# Altium integrated library CDE_Library.IntLib: 6171 symbols (part 11 of 25)
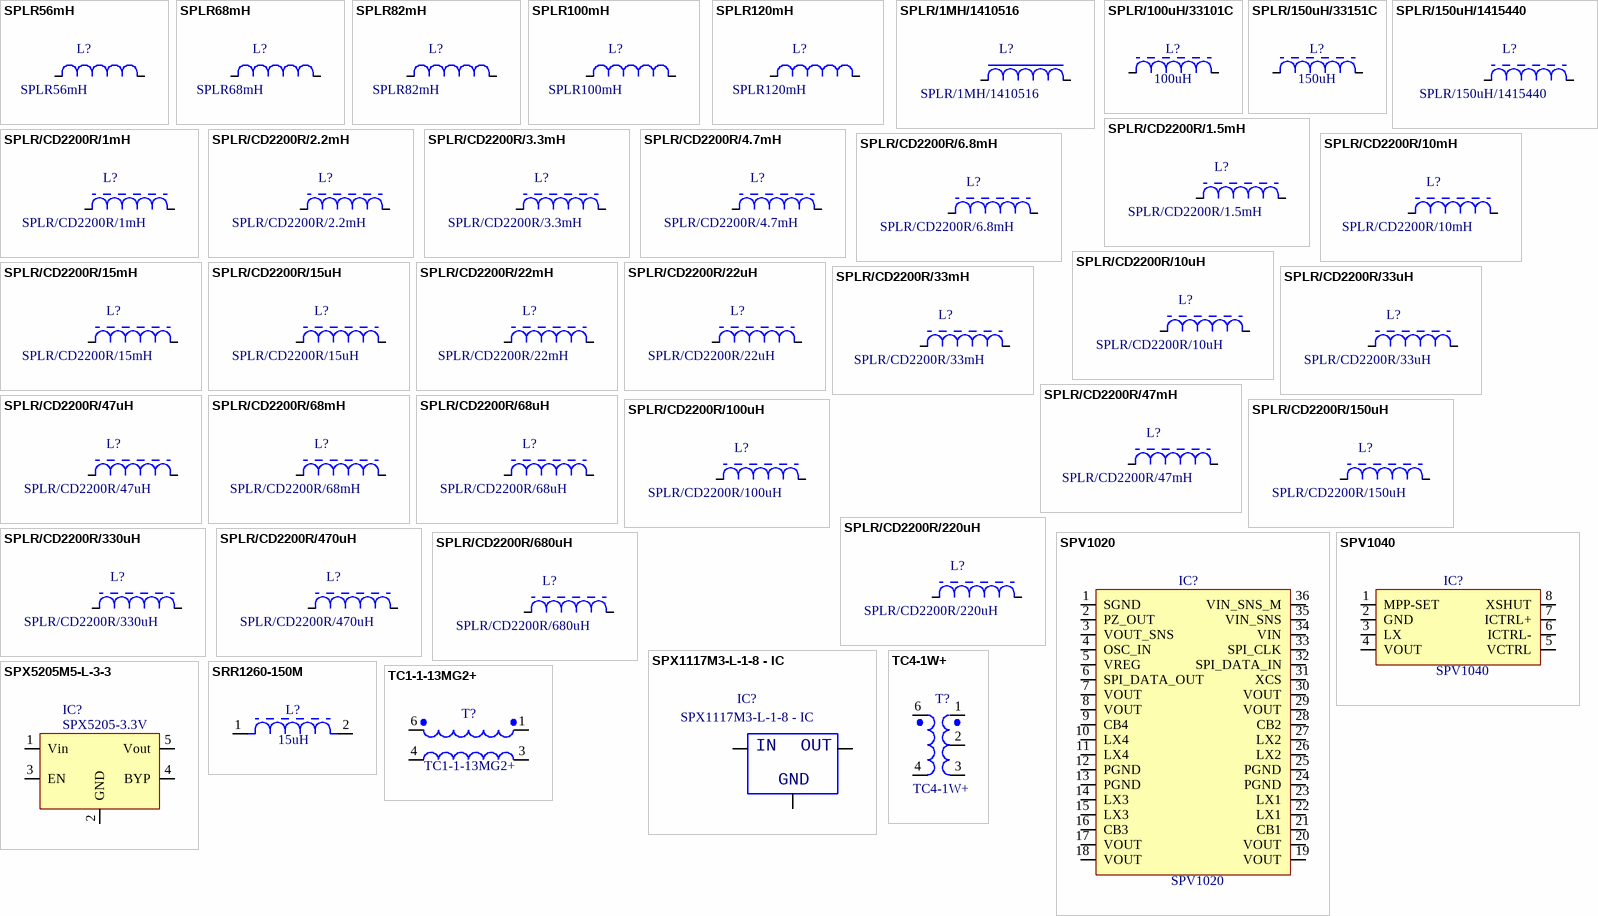
[diagram p267: symbols SPLR56mH to TC4-1W+]

## SPLR82mH
designator L?
spoel radiaal magn. afgeschermd D10.2mm Toko10RB  82mH; Part Number: SPLR82mH; Component Kind: Standard; Component Type: Standard; Designator: SPLR82mH; Footprint: spoel (D.4/.2/80/36); Library Reference: SPLR82mH; Pin Count: 2
footprint spoel (D.4/.2/80/36)
pins: 1, 2

## SPLR100mH
designator L?
spoel radiaal magn. afgeschermd D10.2mm Toko10RB  100mH; Part Number: SPLR100mH; Component Kind: Standard; Component Type: Standard; Designator: SPLR100mH; Footprint: spoel (D.4/.2/80/36); Library Reference: SPLR100mH; Pin Count: 2
footprint spoel (D.4/.2/80/36)
pins: 1, 2

## SPLR120mH
designator L?
spoel radiaal magn. afgeschermd D10.2mm Toko10RB  120mH; Part Number: SPLR120mH; Component Kind: Standard; Component Type: Standard; Designator: SPLR120mH; Footprint: spoel (D.4/.2/80/36); Library Reference: SPLR120mH; Pin Count: 2
footprint spoel (D.4/.2/80/36)
pins: 1, 2

## SPLR/1MH/1410516
designator L?
spoel radiaal, Newport Components, 1mH
footprint spoel (D.93/.91/90/32)
pins: 1, 2

## SPLR/100uH/33101C
designator L?, comment 100uH
spoel radiaal, Murata, 100uH, 33101C, 2.4A
footprint SPL/Murata 33151C
pins: 1, 3

## SPLR/150uH/33151C
designator L?, comment 150uH
spoel radiaal, Murata, 150uH, 33151C, 2A
footprint SPL/Murata 33151C
pins: 1, 3

## SPLR/150uH/1415440
designator L?
spoel radiaal, C&D Technologies, 150uH, 432-040
footprint spoel (D/1.1/.98/100/47)
pins: 1, 2

## SPLR/CD2200R/1.5mH
designator L?
spoel radiaal met ferrietkern, C&D Technologies, type 2200R; Part Number: SPLR/CD2200R/1.5mH; Component Kind: Standard; Component Type: Standard; Designator: SPLR/CD2200R/1.5mH; Footprint: spoel (D.3/.12/80/36); Library Reference: SPLR/CD2200R/1.5mH; Pin Count: 2
footprint spoel (D.3/.12/80/36)
pins: 1, 2

## SPLR/CD2200R/1mH
designator L?
spoel radiaal met ferrietkern, C&D Technologies, type 2200R; Part Number: SPLR/CD2200R/1mH; Component Kind: Standard; Component Type: Standard; Designator: SPLR/CD2200R/1mH; Footprint: spoel (D.3/.12/80/36); Library Reference: SPLR/CD2200R/1mH; Pin Count: 2
footprint spoel (D.3/.12/80/36)
pins: 1, 2

## SPLR/CD2200R/2.2mH
designator L?
spoel radiaal met ferrietkern, C&D Technologies, type 2200R; Part Number: SPLR/CD2200R/2.2mH; Component Kind: Standard; Component Type: Standard; Designator: SPLR/CD2200R/2.2mH; Footprint: spoel (D.3/.12/80/36); Library Reference: SPLR/CD2200R/2.2mH; Pin Count: 2
footprint spoel (D.3/.12/80/36)
pins: 1, 2

## SPLR/CD2200R/3.3mH
designator L?
spoel radiaal met ferrietkern, C&D Technologies, type 2200R; Part Number: SPLR/CD2200R/3.3mH; Component Kind: Standard; Component Type: Standard; Designator: SPLR/CD2200R/3.3mH; Footprint: spoel (D.3/.12/80/36); Library Reference: SPLR/CD2200R/3.3mH; Pin Count: 2
footprint spoel (D.3/.12/80/36)
pins: 1, 2

## SPLR/CD2200R/4.7mH
designator L?
spoel radiaal met ferrietkern, C&D Technologies, type 2200R; Part Number: SPLR/CD2200R/4.7mH; Component Kind: Standard; Component Type: Standard; Designator: SPLR/CD2200R/4.7mH; Footprint: spoel (D.3/.12/80/36); Library Reference: SPLR/CD2200R/4.7mH; Pin Count: 2
footprint spoel (D.3/.12/80/36)
pins: 1, 2

## SPLR/CD2200R/6.8mH
designator L?
spoel radiaal met ferrietkern, C&D Technologies, type 2200R; Part Number: SPLR/CD2200R/6.8mH; Component Kind: Standard; Component Type: Standard; Designator: SPLR/CD2200R/6.8mH; Footprint: spoel (D.3/.12/80/36); Library Reference: SPLR/CD2200R/6.8mH; Pin Count: 2
footprint spoel (D.3/.12/80/36)
pins: 1, 2

## SPLR/CD2200R/10mH
designator L?
spoel radiaal met ferrietkern, C&D Technologies, type 2200R; Part Number: SPLR/CD2200R/10mH; Component Kind: Standard; Component Type: Standard; Designator: SPLR/CD2200R/10mH; Footprint: spoel (D.3/.12/80/36); Library Reference: SPLR/CD2200R/10mH; Pin Count: 2
footprint spoel (D.3/.12/80/36)
pins: 1, 2

## SPLR/CD2200R/10uH
designator L?
spoel radiaal met ferrietkern, C&D Technologies, type 2200R
footprint spoel (D.3/.12/80/36)
pins: 1, 2

## SPLR/CD2200R/15mH
designator L?
spoel radiaal met ferrietkern, C&D Technologies, type 2200R; Part Number: SPLR/CD2200R/15mH; Component Kind: Standard; Component Type: Standard; Designator: SPLR/CD2200R/15mH; Footprint: spoel (D.3/.12/80/36); Library Reference: SPLR/CD2200R/15mH; Pin Count: 2
footprint spoel (D.3/.12/80/36)
pins: 1, 2

## SPLR/CD2200R/15uH
designator L?
spoel radiaal met ferrietkern, C&D Technologies, type 2200R; Part Number: SPLR/CD2200R/15uH; Component Kind: Standard; Component Type: Standard; Designator: SPLR/CD2200R/15uH; Footprint: spoel (D.3/.12/80/36); Library Reference: SPLR/CD2200R/15uH; Pin Count: 2
footprint spoel (D.3/.12/80/36)
pins: 1, 2

## SPLR/CD2200R/22mH
designator L?
spoel radiaal met ferrietkern, C&D Technologies, type 2200R; Part Number: SPLR/CD2200R/22mH; Component Kind: Standard; Component Type: Standard; Designator: SPLR/CD2200R/22mH; Footprint: spoel (D.3/.12/80/36); Library Reference: SPLR/CD2200R/22mH; Pin Count: 2
footprint spoel (D.3/.12/80/36)
pins: 1, 2

## SPLR/CD2200R/22uH
designator L?
spoel radiaal met ferrietkern, C&D Technologies, type 2200R; Part Number: SPLR/CD2200R/22uH; Component Kind: Standard; Component Type: Standard; Designator: SPLR/CD2200R/22uH; Footprint: spoel (D.3/.12/80/36); Library Reference: SPLR/CD2200R/22uH; Pin Count: 2
footprint spoel (D.3/.12/80/36)
pins: 1, 2

## SPLR/CD2200R/33mH
designator L?
spoel radiaal met ferrietkern, C&D Technologies, type 2200R; Part Number: SPLR/CD2200R/33mH; Component Kind: Standard; Component Type: Standard; Designator: SPLR/CD2200R/33mH; Footprint: spoel (D.3/.12/80/36); Library Reference: SPLR/CD2200R/33mH; Pin Count: 2
footprint spoel (D.3/.12/80/36)
pins: 1, 2

## SPLR/CD2200R/33uH
designator L?
spoel radiaal met ferrietkern, C&D Technologies, type 2200R; Part Number: SPLR/CD2200R/33uH; Component Kind: Standard; Component Type: Standard; Designator: SPLR/CD2200R/33uH; Footprint: spoel (D.3/.12/80/36); Library Reference: SPLR/CD2200R/33uH; Pin Count: 2
footprint spoel (D.3/.12/80/36)
pins: 1, 2

## SPLR/CD2200R/47mH
designator L?
spoel radiaal met ferrietkern, C&D Technologies, type 2200R; Part Number: SPLR/CD2200R/47mH; Component Kind: Standard; Component Type: Standard; Designator: SPLR/CD2200R/47mH; Footprint: spoel (D.3/.12/80/36); Library Reference: SPLR/CD2200R/47mH; Pin Count: 2
footprint spoel (D.3/.12/80/36)
pins: 1, 2

## SPLR/CD2200R/47uH
designator L?
spoel radiaal met ferrietkern, C&D Technologies, type 2200R; Part Number: SPLR/CD2200R/47uH; Component Kind: Standard; Component Type: Standard; Designator: SPLR/CD2200R/47uH; Footprint: spoel (D.3/.12/80/36); Library Reference: SPLR/CD2200R/47uH; Pin Count: 2
footprint spoel (D.3/.12/80/36)
pins: 1, 2

## SPLR/CD2200R/68mH
designator L?
spoel radiaal met ferrietkern, C&D Technologies, type 2200R; Part Number: SPLR/CD2200R/68mH; Component Kind: Standard; Component Type: Standard; Designator: SPLR/CD2200R/68mH; Footprint: spoel (D.3/.12/80/36); Library Reference: SPLR/CD2200R/68mH; Pin Count: 2
footprint spoel (D.3/.12/80/36)
pins: 1, 2

## SPLR/CD2200R/68uH
designator L?
spoel radiaal met ferrietkern, C&D Technologies, type 2200R; Part Number: SPLR/CD2200R/68uH; Component Kind: Standard; Component Type: Standard; Designator: SPLR/CD2200R/68uH; Footprint: spoel (D.3/.12/80/36); Library Reference: SPLR/CD2200R/68uH; Pin Count: 2
footprint spoel (D.3/.12/80/36)
pins: 1, 2

## SPLR/CD2200R/100uH
designator L?
spoel radiaal met ferrietkern, C&D Technologies, type 2200R; Part Number: SPLR/CD2200R/100uH; Component Kind: Standard; Component Type: Standard; Designator: SPLR/CD2200R/100uH; Footprint: spoel (D.3/.12/80/36); Library Reference: SPLR/CD2200R/100uH; Pin Count: 2
footprint spoel (D.3/.12/80/36)
pins: 1, 2

## SPLR/CD2200R/150uH
designator L?
spoel radiaal met ferrietkern, C&D Technologies, type 2200R; Part Number: SPLR/CD2200R/150uH; Component Kind: Standard; Component Type: Standard; Designator: SPLR/CD2200R/150uH; Footprint: spoel (D.3/.12/80/36); Library Reference: SPLR/CD2200R/150uH; Pin Count: 2
footprint spoel (D.3/.12/80/36)
pins: 1, 2

## SPLR/CD2200R/220uH
designator L?
spoel radiaal met ferrietkern, C&D Technologies, type 2200R; Part Number: SPLR/CD2200R/220uH; Component Kind: Standard; Component Type: Standard; Designator: SPLR/CD2200R/220uH; Footprint: spoel (D.3/.12/80/36); Library Reference: SPLR/CD2200R/220uH; Pin Count: 2
footprint spoel (D.3/.12/80/36)
pins: 1, 2

## SPLR/CD2200R/330uH
designator L?
spoel radiaal met ferrietkern, C&D Technologies, type 2200R; Part Number: SPLR/CD2200R/330uH; Component Kind: Standard; Component Type: Standard; Designator: SPLR/CD2200R/330uH; Footprint: spoel (D.3/.12/80/36); Library Reference: SPLR/CD2200R/330uH; Pin Count: 2
footprint spoel (D.3/.12/80/36)
pins: 1, 2

## SPLR/CD2200R/470uH
designator L?
spoel radiaal met ferrietkern, C&D Technologies, type 2200R; Part Number: SPLR/CD2200R/470uH; Component Kind: Standard; Component Type: Standard; Designator: SPLR/CD2200R/470uH; Footprint: spoel (D.3/.12/80/36); Library Reference: SPLR/CD2200R/470uH; Pin Count: 2
footprint spoel (D.3/.12/80/36)
pins: 1, 2

## SPLR/CD2200R/680uH
designator L?
spoel radiaal met ferrietkern, C&D Technologies, type 2200R; Part Number: SPLR/CD2200R/680uH; Component Kind: Standard; Component Type: Standard; Designator: SPLR/CD2200R/680uH; Footprint: spoel (D.3/.12/80/36); Library Reference: SPLR/CD2200R/680uH; Pin Count: 2
footprint spoel (D.3/.12/80/36)
pins: 1, 2

## SPV1020
designator IC?
Interleaved DC-DC boost converter with built-in MPPT algorithm
footprint PowerSSO-36
pins: 1 SGND, 2 PZ_OUT, 3 VOUT_SNS, 4 OSC_IN, 5 VREG, 6 SPI_DATA_OUT, 7 VOUT, 8 VOUT, 9 CB4, 10 LX4, 11 LX4, 12 PGND, 13 PGND, 14 LX3, 15 LX3, 16 CB3, 17 VOUT, 18 VOUT, 19 VOUT, 20 VOUT, 21 CB1, 22 LX1, 23 LX1, 24 PGND, 25 PGND, 26 LX2, 27 LX2, 28 CB2, 29 VOUT, 30 VOUT, 31 XCS, 32 SPI_DATA_IN, 33 SPI_CLK, 34 VIN, 35 VIN_SNS, 36 VIN_SNS_M

## SPV1040
designator IC?
High efficiency solar battery charger with embedded MPPT
footprint smd TSSOP/8 (body 3 pitch 0.65)
pins: 1 MPP-SET, 2 GND, 3 LX, 4 VOUT, 5 VCTRL, 6 ICTRL-, 7 ICTRL+, 8 XSHUT

## SPX1117M3-L-1-8 - IC
designator IC?
low dropout linear regulator, 1.8V 800mA, SOT-223; Designator: LM1117MPX-1.8; Part Number: SPX1117M3-L-1-8 - IC; Component Kind: Standard; Component Type: Standard; Footprint: smd SOT-223; Library Reference: LM1117MPX-1.8; Pin Count: 3
footprint smd SOT-223
pins: 1, 2, 3
text: IN; OUT; GND

## SPX5205M5-L-3-3
designator IC?, comment SPX5205-3.3V
150mA, LOW-NOISE LDO VOLTAGE REGULATOR
footprint smd SOT-23/5p (body 1.6 wide, pitch 0.95mm)
pins: 1 Vin, 2 GND, 3 EN, 4 BYP, 5 Vout

## SRR1260-150M
designator L?, comment 15uH
INDUCTOR, POWER, 15UH, 4.6A, 20%
footprint smd SRR1260 (Bourns SRR1260 Series - Shielded SMD Power Inductors)
pins: 1, 2

## TC1-1-13MG2+
designator T?
SMT Transformer 50 Ohm, 4.5 to 3000 MHz
footprint SMD AT224
pins: 1, 3, 4, 6

## TC4-1W+
designator T?
SMT Transformer 50 Ohm, 3 to 800 MHz
footprint SMD AT224
pins: 1, 2, 3, 4, 6

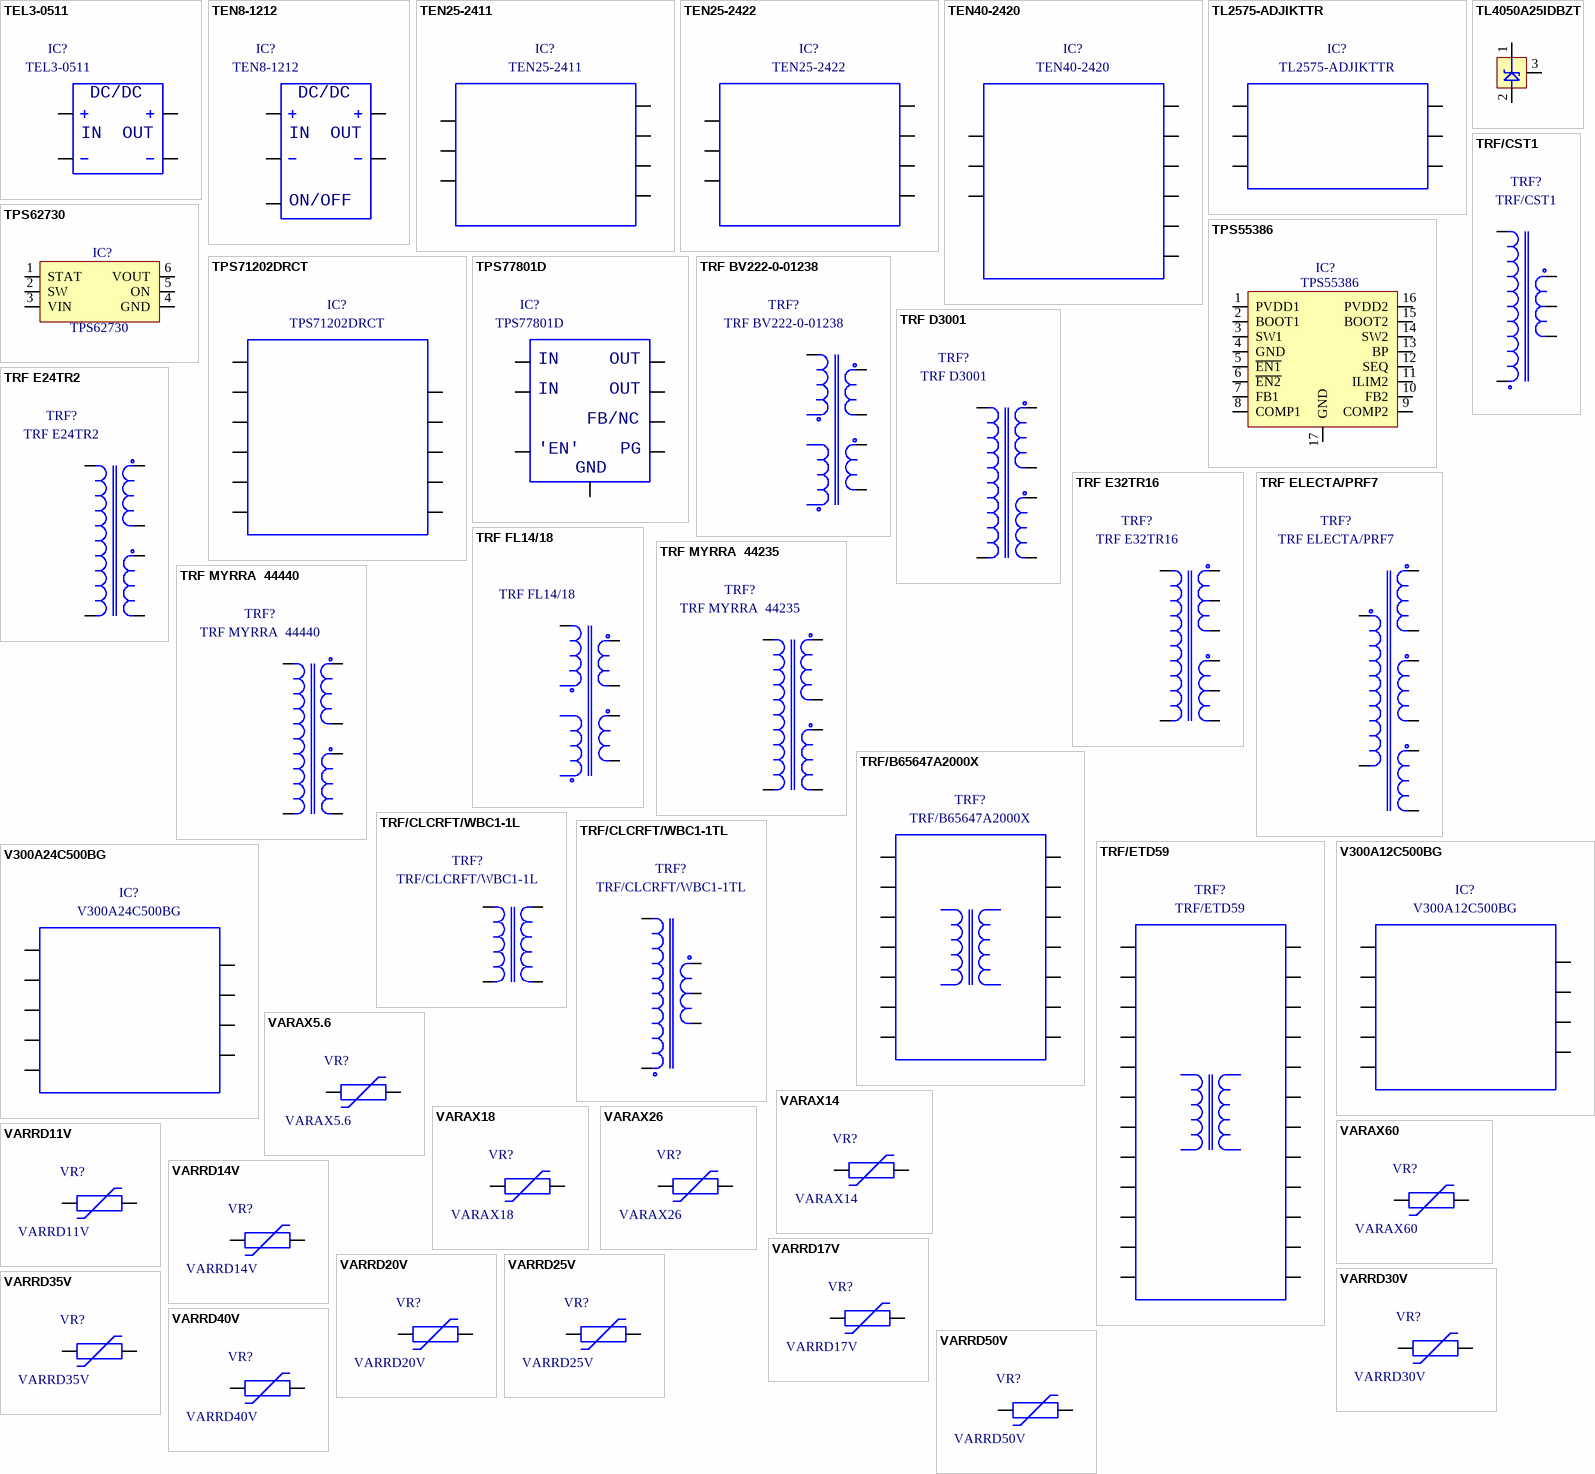
[diagram p122: symbols TEL3-0511 to VARRD50V]

## TEL3-0511
designator IC?
DC/DC converter, 5V 600mA, Traco
footprint DC/DC conv. Traco (TEL3 serie)
pins: 1, 4, 5, 6
text: DC/DC; IN; OUT

## TEN8-1212
designator IC?
DC/DC converter, 12V 665mA, Traco
footprint DC/DC conv. Traco (TEN8 serie)
pins: 1, 2, 6, 7, 9
text: DC/DC; IN; OUT; ON/OFF

## TEN25-2411
designator IC?
DC/DC converter,  +5V, 25W, Traco
footprint DC/DC conv. Traco (TEN25 serie)
pins: 1 Vcc, 2 GND, 3 Remote, 4 NC, 5 +Vout, 6 -Vout, 7 Trim

## TEN25-2422
designator IC?
DC/DC converter, +12V en -12V, 25W, Traco
footprint DC/DC conv. Traco (TEN25 serie)
pins: 1 Vcc, 2 GND, 3 Remote, 4 +Vout, 5 Com, 6 -Vout, 7 Trim

## TEN40-2420
designator IC?
DC/DC converter, +3.3V en +5V, 40W, Traco
footprint DC/DC conv. Traco (TEN40 serie)
pins: 1 +VIN, 2 -VIN, 3 ON/OFF, 4 +3.3V, 5 GND+3.3V, 6 NC, 7 NC, 8 +5V, 9 GND+5V

## TL2575-ADJIKTTR
designator IC?
1A Simple Step-Down Switching Voltage Regulator
footprint TO-263 5pin
pins: 1 VIN, 2 OUT, 3 GND, 4 FB, 5 'ON'/OFF, 6 GND

## TL4050A25IDBZT
designator ?
PRECISION MICROPOWER SHUNT VOLTAGE REFERENCE
footprint smd SOT-23
pins: 1, 2, 3

## TPS55386
designator IC?
3-A DUAL NON-SYNCHRONOUS CONVERTER WITH INTEGRATED HIGH-SIDE MOSFET  AND EXTERNAL COMPENSATION
footprint smd SSOP/16 (body 4.5 pitch 0.65)
pins: 1 PVDD1, 2 BOOT1, 3 SW1, 4 GND, 5 ~{EN1}, 6 ~{EN2}, 7 FB1, 8 COMP1, 9 COMP2, 10 FB2, 11 ILIM2, 12 SEQ, 13 BP, 14 SW2, 15 BOOT2, 16 PVDD2, 17 GND

## TPS62730
designator IC?
Step Down Converter with Bypass Mode for Ultra Low Power Wireless Applications
footprint smd  SON/6
pins: 1 STAT, 2 SW, 3 VIN, 4 GND, 5 ON, 6 VOUT

## TPS71202DRCT
designator IC?
Dual 250 mA Output, UltraLow Noise, High PSRR, Low-Dropout Linear Regulator
footprint smd SON/10
pins: 1 IN, 2 NC, 3 OUT1, 4 OUT2, 5 GND, 6 NR, 7 FB2/NC, 8 EN2, 9 FB1/NC, 10 EN1, 11 EXP.PAD

## TPS77801D
designator IC?
fast-transient-response, low-dropout lin. regulator
footprint smd SOICN/8
pins: 1, 2, 3, 4, 5, 6, 7, 8
text: IN; OUT; FB/NC; 'EN'; PG; GND

## TRF BV222-0-01238
designator TRF?
transfo Schaffer BV222-0-01238 2.5VA
footprint transfo Schaffer (BV222-0-01238)
pins: 1, 2, 3, 4, 5, 6, 7, 8

## TRF D3001
designator TRF?
transfo Dagnall Electronics D3001, 2x9V 3VA
footprint transfo Dagn.Electronics (D3001)
pins: 1, 4, 5, 6, 7, 8

## TRF E24TR2
designator TRF?
transfo erea E24TR2 1.6VA
footprint transfo erea (E24TR2)
pins: 1, 2, 3, 4, 5, 6

## TRF E32TR16
designator TRF?
transfo erea E32TR16 16VA
footprint transfo erea (E32TR16)
pins: 1, 2, 3, 4, 5, 6, 7, 8

## TRF ELECTA/PRF7
designator TRF?
transfo voor Electa, proef 7, wikkellichaam B66422
footprint wikkellichaam B66422 (Siemens Matsushita)
pins: 1, 4, 5, 6, 7, 8, 9, 10

## TRF FL14/18
designator ?
transfo RS FL14/18 14VA
footprint transfo RS (FL14/18 209-932)
pins: 1, 2, 3, 4, 5, 6, 7, 8

## TRF MYRRA  44235
designator TRF?
transfo Myrra 44235 2x6V 5VA
footprint transfo myrra (44235)
pins: 1, 2, 3, 4, 5, 6

## TRF MYRRA  44440
designator TRF?
transfo Myrra 44235 2x12V 22VA
footprint transfo myrra (44440)
pins: 1, 7, 8, 9, 13, 14

## TRF/B65647A2000X
designator TRF?
wikkellichaam met kern, Epcos B65647A2000X
footprint wikkellichaam B65647A2000X (Epcos)
pins: 1, 2, 3, 4, 5, 6, 7, 8, 9, 10, 11, 12, 13, 14

## TRF/CLCRFT/WBC1-1L
designator TRF?
smd trafo Coilcraft WBC1-1L
footprint smd trafo WBC serie (Coilcraft)
pins: 1, 3, 4, 6

## TRF/CLCRFT/WBC1-1TL
designator TRF?
smd trafo Coilcraft WBC1-1TL
footprint smd trafo WBC serie (Coilcraft)
pins: 1, 2, 3, 4, 6

## TRF/CST1
designator TRF?
transfo custom 1
footprint transfo custom 1
pins: 1, 2, 8, 9, 10

## TRF/ETD59
designator TRF?
wikkellichaam met kern, Philips ETD59
footprint wikkellichaam ETD59 (Philips)
pins: 1, 2, 3, 4, 5, 6, 7, 8, 9, 10, 11, 12, 13, 14, 15, 16, 17, 18, 19, 20, 21, 22, 23, 24

## V300A12C500BG
designator IC?
DC/DC converter,  +12V, 500W, Vicor
footprint DC/DC conv. Vicor (V300A serie)
pins: 1 +IN, 2 PC, 3 PR, 4 -IN, 5 -OUT, 6 -SENSE, 7 SC, 8 +SENSE, 9 +OUT

## V300A24C500BG
designator IC?
DC/DC converter,  +24V, 500W, Vicor; Part Number: V300A24C500BG; Component Kind: Standard; Component Type: Standard; Designator: V300A24C500BG; Footprint: DC/DC conv. Vicor (V300A serie); Library Reference: V300A24C500BG; Pin Count: 9
footprint DC/DC conv. Vicor (V300A serie)
pins: 1 +IN, 2 PC, 3 PR, 4 -IN, 5 -OUT, 6 -SENSE, 7 SC, 8 +SENSE, 9 +OUT

## VARAX5.6
designator VR?
varistor axiaal, AVX Transguard 5.6V
footprint varistor axiaal (AVX VA2000)
pins: 1, 2

## VARAX14
designator VR?
varistor axiaal, AVX Transguard 14V; Part Number: VARAX14; Component Kind: Standard; Component Type: Standard; Designator: VARAX14; Footprint: varistor axiaal (AVX VA2000); Library Reference: VARAX14; Pin Count: 2
footprint varistor axiaal (AVX VA2000)
pins: 1, 2

## VARAX18
designator VR?
varistor axiaal, AVX Transguard 18V; Part Number: VARAX18; Component Kind: Standard; Component Type: Standard; Designator: VARAX18; Footprint: varistor axiaal (AVX VA2000); Library Reference: VARAX18; Pin Count: 2
footprint varistor axiaal (AVX VA2000)
pins: 1, 2

## VARAX26
designator VR?
varistor axiaal, AVX Transguard 26V; Part Number: VARAX26; Component Kind: Standard; Component Type: Standard; Designator: VARAX26; Footprint: varistor axiaal (AVX VA2000); Library Reference: VARAX26; Pin Count: 2
footprint varistor axiaal (AVX VA2000)
pins: 1, 2

## VARAX60
designator VR?
varistor axiaal, AVX Transguard 60V; Part Number: VARAX60; Component Kind: Standard; Component Type: Standard; Designator: VARAX60; Footprint: varistor axiaal (AVX VA2000); Library Reference: VARAX60; Pin Count: 2
footprint varistor axiaal (AVX VA2000)
pins: 1, 2

## VARRD11V
designator VR?
varistor radiaal, 11V
footprint varistor radiaal (.58/.17/.3/100/43)
pins: 1, 2

## VARRD14V
designator VR?
varistor radiaal, 14V; Part Number: VARRD14V; Component Kind: Standard; Component Type: Standard; Designator: VARRD14V; Footprint: varistor radiaal (.58/.17/.3/100/43); Library Reference: VARRD14V; Pin Count: 2
footprint varistor radiaal (.58/.17/.3/100/43)
pins: 1, 2

## VARRD17V
designator VR?
varistor radiaal, 17V; Part Number: VARRD17V; Component Kind: Standard; Component Type: Standard; Designator: VARRD17V; Footprint: varistor radiaal (.58/.17/.3/100/43); Library Reference: VARRD17V; Pin Count: 2
footprint varistor radiaal (.58/.17/.3/100/43)
pins: 1, 2

## VARRD20V
designator VR?
varistor radiaal, 20V; Part Number: VARRD20V; Component Kind: Standard; Component Type: Standard; Designator: VARRD20V; Footprint: varistor radiaal (.58/.17/.3/100/43); Library Reference: VARRD20V; Pin Count: 2
footprint varistor radiaal (.58/.17/.3/100/43)
pins: 1, 2

## VARRD25V
designator VR?
varistor radiaal, 25V; Part Number: VARRD25V; Component Kind: Standard; Component Type: Standard; Designator: VARRD25V; Footprint: varistor radiaal (.58/.17/.3/100/43); Library Reference: VARRD25V; Pin Count: 2
footprint varistor radiaal (.58/.17/.3/100/43)
pins: 1, 2

## VARRD30V
designator VR?
varistor radiaal, 30V; Part Number: VARRD30V; Component Kind: Standard; Component Type: Standard; Designator: VARRD30V; Footprint: varistor radiaal (.58/.17/.3/100/43); Library Reference: VARRD30V; Pin Count: 2
footprint varistor radiaal (.58/.17/.3/100/43)
pins: 1, 2

## VARRD35V
designator VR?
varistor radiaal, 35V; Part Number: VARRD35V; Component Kind: Standard; Component Type: Standard; Designator: VARRD35V; Footprint: varistor radiaal (.58/.17/.3/100/43); Library Reference: VARRD35V; Pin Count: 2
footprint varistor radiaal (.58/.17/.3/100/43)
pins: 1, 2

## VARRD40V
designator VR?
varistor radiaal, 40V; Part Number: VARRD40V; Component Kind: Standard; Component Type: Standard; Designator: VARRD40V; Footprint: varistor radiaal (.58/.17/.3/100/43); Library Reference: VARRD40V; Pin Count: 2
footprint varistor radiaal (.58/.17/.3/100/43)
pins: 1, 2

## VARRD50V
designator VR?
varistor radiaal, 50V; Part Number: VARRD50V; Component Kind: Standard; Component Type: Standard; Designator: VARRD50V; Footprint: varistor radiaal (.58/.17/.3/100/43); Library Reference: VARRD50V; Pin Count: 2
footprint varistor radiaal (.58/.17/.3/100/43)
pins: 1, 2

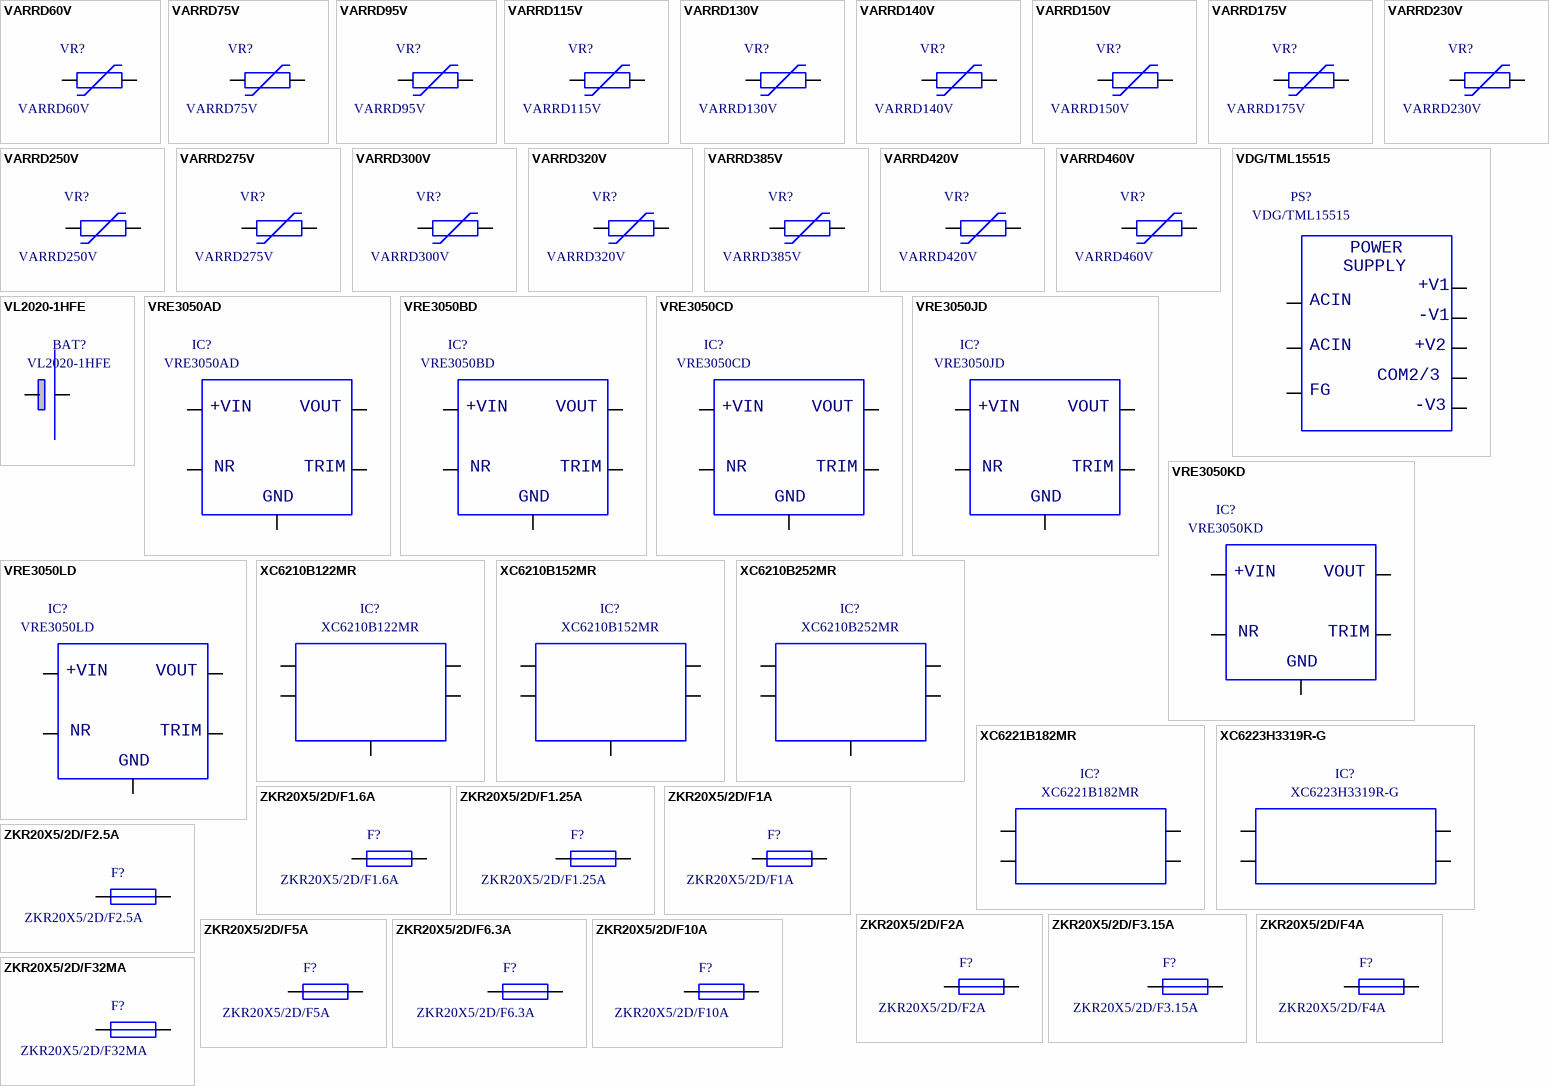
[diagram p123: symbols VARRD60V to ZKR20X5/2D/F32MA]

## VARRD60V
designator VR?
varistor radiaal, 60V; Part Number: VARRD60V; Component Kind: Standard; Component Type: Standard; Designator: VARRD60V; Footprint: varistor radiaal (.58/.17/.3/100/43); Library Reference: VARRD60V; Pin Count: 2
footprint varistor radiaal (.58/.17/.3/100/43)
pins: 1, 2

## VARRD75V
designator VR?
varistor radiaal, 75V; Part Number: VARRD75V; Component Kind: Standard; Component Type: Standard; Designator: VARRD75V; Footprint: varistor radiaal (.58/.17/.3/100/43); Library Reference: VARRD75V; Pin Count: 2
footprint varistor radiaal (.58/.17/.3/100/43)
pins: 1, 2

## VARRD95V
designator VR?
varistor radiaal, 95V; Part Number: VARRD95V; Component Kind: Standard; Component Type: Standard; Designator: VARRD95V; Footprint: varistor radiaal (.58/.17/.3/100/43); Library Reference: VARRD95V; Pin Count: 2
footprint varistor radiaal (.58/.17/.3/100/43)
pins: 1, 2

## VARRD115V
designator VR?
varistor radiaal, 115V; Part Number: VARRD115V; Component Kind: Standard; Component Type: Standard; Designator: VARRD115V; Footprint: varistor radiaal (.58/.17/.3/100/43); Library Reference: VARRD115V; Pin Count: 2
footprint varistor radiaal (.58/.17/.3/100/43)
pins: 1, 2

## VARRD130V
designator VR?
varistor radiaal, 130V; Part Number: VARRD130V; Component Kind: Standard; Component Type: Standard; Designator: VARRD130V; Footprint: varistor radiaal (.58/.17/.3/100/43); Library Reference: VARRD130V; Pin Count: 2
footprint varistor radiaal (.58/.17/.3/100/43)
pins: 1, 2

## VARRD140V
designator VR?
varistor radiaal, 140V; Part Number: VARRD140V; Component Kind: Standard; Component Type: Standard; Designator: VARRD140V; Footprint: varistor radiaal (.58/.17/.3/100/43); Library Reference: VARRD140V; Pin Count: 2
footprint varistor radiaal (.58/.17/.3/100/43)
pins: 1, 2

## VARRD150V
designator VR?
varistor radiaal, 150V; Part Number: VARRD150V; Component Kind: Standard; Component Type: Standard; Designator: VARRD150V; Footprint: varistor radiaal (.58/.17/.3/100/43); Library Reference: VARRD150V; Pin Count: 2
footprint varistor radiaal (.58/.17/.3/100/43)
pins: 1, 2

## VARRD175V
designator VR?
varistor radiaal, 175V; Part Number: VARRD175V; Component Kind: Standard; Component Type: Standard; Designator: VARRD175V; Footprint: varistor radiaal (.58/.17/.3/100/43); Library Reference: VARRD175V; Pin Count: 2
footprint varistor radiaal (.58/.17/.3/100/43)
pins: 1, 2

## VARRD230V
designator VR?
varistor radiaal, 230V; Part Number: VARRD230V; Component Kind: Standard; Component Type: Standard; Designator: VARRD230V; Footprint: varistor radiaal (.58/.17/.3/100/43); Library Reference: VARRD230V; Pin Count: 2
footprint varistor radiaal (.58/.17/.3/100/43)
pins: 1, 2

## VARRD250V
designator VR?
varistor radiaal, 250V; Part Number: VARRD250V; Component Kind: Standard; Component Type: Standard; Designator: VARRD250V; Footprint: varistor radiaal (.58/.17/.3/100/43); Library Reference: VARRD250V; Pin Count: 2
footprint varistor radiaal (.58/.17/.3/100/43)
pins: 1, 2

## VARRD275V
designator VR?
varistor radiaal, 275V; Part Number: VARRD275V; Component Kind: Standard; Component Type: Standard; Designator: VARRD275V; Footprint: varistor radiaal (.58/.17/.3/100/43); Library Reference: VARRD275V; Pin Count: 2
footprint varistor radiaal (.58/.17/.3/100/43)
pins: 1, 2

## VARRD300V
designator VR?
varistor radiaal, 300V; Part Number: VARRD300V; Component Kind: Standard; Component Type: Standard; Designator: VARRD300V; Footprint: varistor radiaal (.58/.17/.3/100/43); Library Reference: VARRD300V; Pin Count: 2
footprint varistor radiaal (.58/.17/.3/100/43)
pins: 1, 2

## VARRD320V
designator VR?
varistor radiaal, 320V; Part Number: VARRD320V; Component Kind: Standard; Component Type: Standard; Designator: VARRD320V; Footprint: varistor radiaal (.58/.17/.3/100/43); Library Reference: VARRD320V; Pin Count: 2
footprint varistor radiaal (.58/.17/.3/100/43)
pins: 1, 2

## VARRD385V
designator VR?
varistor radiaal, 385V; Part Number: VARRD385V; Component Kind: Standard; Component Type: Standard; Designator: VARRD385V; Footprint: varistor radiaal (.58/.17/.3/100/43); Library Reference: VARRD385V; Pin Count: 2
footprint varistor radiaal (.58/.17/.3/100/43)
pins: 1, 2

## VARRD420V
designator VR?
varistor radiaal, 420V; Part Number: VARRD420V; Component Kind: Standard; Component Type: Standard; Designator: VARRD420V; Footprint: varistor radiaal (.58/.17/.3/100/43); Library Reference: VARRD420V; Pin Count: 2
footprint varistor radiaal (.58/.17/.3/100/43)
pins: 1, 2

## VARRD460V
designator VR?
varistor radiaal, 460V; Part Number: VARRD460V; Component Kind: Standard; Component Type: Standard; Designator: VARRD460V; Footprint: varistor radiaal (.58/.17/.3/100/43); Library Reference: VARRD460V; Pin Count: 2
footprint varistor radiaal (.58/.17/.3/100/43)
pins: 1, 2

## VDG/TML15515
designator PS?
voeding Traco TML15515
footprint voeding Traco (TML15W serie)
pins: 1, 2, 3, 4, 5, 6, 7, 8
text: POWER; SUPPLY; +V1; ACIN; -V1; +V2; COM2/3; FG; -V3

## VL2020-1HFE
designator BAT?
batterij VL2020-1HFE, Panasonic
footprint batterij VL2020-1HFE (Panasonic)
pins: 1, 2

## VRE3050AD
designator IC?
low cost precision reference, 5V, Thaler Corp.
footprint icv DIP8-300
pins: 2, 4, 5, 6, 8
text: +VIN; VOUT; NR; TRIM; GND

## VRE3050BD
designator IC?
low cost precision reference, 5V, Thaler Corp.; Part Number: VRE3050BD; Component Kind: Standard; Component Type: Standard; Designator: VRE3050BD; Footprint: icv DIP8-300; Library Reference: VRE3050BD; Pin Count: 5
footprint icv DIP8-300
pins: 2, 4, 5, 6, 8
text: +VIN; VOUT; NR; TRIM; GND

## VRE3050CD
designator IC?
low cost precision reference, 5V, Thaler Corp.; Part Number: VRE3050CD; Component Kind: Standard; Component Type: Standard; Designator: VRE3050CD; Footprint: icv DIP8-300; Library Reference: VRE3050CD; Pin Count: 5
footprint icv DIP8-300
pins: 2, 4, 5, 6, 8
text: +VIN; VOUT; NR; TRIM; GND

## VRE3050JD
designator IC?
low cost precision reference, 5V, Thaler Corp.; Part Number: VRE3050JD; Component Kind: Standard; Component Type: Standard; Designator: VRE3050JD; Footprint: icv DIP8-300; Library Reference: VRE3050JD; Pin Count: 5
footprint icv DIP8-300
pins: 2, 4, 5, 6, 8
text: +VIN; VOUT; NR; TRIM; GND

## VRE3050KD
designator IC?
low cost precision reference, 5V, Thaler Corp.; Part Number: VRE3050KD; Component Kind: Standard; Component Type: Standard; Designator: VRE3050KD; Footprint: icv DIP8-300; Library Reference: VRE3050KD; Pin Count: 5
footprint icv DIP8-300
pins: 2, 4, 5, 6, 8
text: +VIN; VOUT; NR; TRIM; GND

## VRE3050LD
designator IC?
low cost precision reference, 5V, Thaler Corp.; Part Number: VRE3050LD; Component Kind: Standard; Component Type: Standard; Designator: VRE3050LD; Footprint: icv DIP8-300; Library Reference: VRE3050LD; Pin Count: 5
footprint icv DIP8-300
pins: 2, 4, 5, 6, 8
text: +VIN; VOUT; NR; TRIM; GND

## XC6210B122MR
designator IC?
high current, high speed LDO regulator +1.2V; Part Number: XC6210B122MR; Component Kind: Standard; Component Type: Standard; Designator: XC6210B122MR; Footprint: smd SOT-23/5p (body 1.6 wide, pitch 0.95mm); Library Reference: XC6210B122MR; Pin Count: 5
footprint smd SOT-23/5p (body 1.6 wide, pitch 0.95mm)
pins: 1 VIN, 2 VSS, 3 CE, 4 NC, 5 VOUT

## XC6210B152MR
designator IC?
high current, high speed LDO regulator +1.5V
footprint smd SOT-23/5p (body 1.6 wide, pitch 0.95mm)
pins: 1 VIN, 2 VSS, 3 CE, 4 NC, 5 VOUT

## XC6210B252MR
designator IC?
high current, high speed LDO regulator +2.5V; Part Number: XC6210B252MR; Component Kind: Standard; Component Type: Standard; Designator: XC6210B252MR; Footprint: smd SOT-23/5p (body 1.6 wide, pitch 0.95mm); Library Reference: XC6210B252MR; Pin Count: 5
footprint smd SOT-23/5p (body 1.6 wide, pitch 0.95mm)
pins: 1 VIN, 2 VSS, 3 CE, 4 NC, 5 VOUT

## XC6221B182MR
designator IC?
high speed LDO regulator with on/off
footprint smd SOT-23/5p (body 1.6 wide, pitch 0.95mm)
pins: 1 VIN, 2 VSS, 3 CE, 5 VOUT

## XC6223H3319R-G
designator IC?
300mA High Speed LDO Voltage Regulator
footprint smd USPQ-4B03
pins: 1 VOUT, 2 VSS, 3 CE, 4 VIN

## ZKR20X5/2D/F1.6A
designator F?
zekering 20x5mm, 2-delige houder, F1.6A; Part Number: ZKR20X5/2D/F1.6A; Component Kind: Standard; Component Type: Standard; Designator: ZKR20X5/2D/F1.6A; Footprint: zkr 20x5 (2-delig); Library Reference: ZKR20X5/2D/F1.6A; Pin Count: 2
footprint zkr 20x5 (2-delig)
pins: 1, 2

## ZKR20X5/2D/F1.25A
designator F?
zekering 20x5mm, 2-delige houder, F1.25A; Part Number: ZKR20X5/2D/F1.25A; Component Kind: Standard; Component Type: Standard; Designator: ZKR20X5/2D/F1.25A; Footprint: zkr 20x5 (2-delig); Library Reference: ZKR20X5/2D/F1.25A; Pin Count: 2
footprint zkr 20x5 (2-delig)
pins: 1, 2

## ZKR20X5/2D/F1A
designator F?
zekering 20x5mm, 2-delige houder, F1A; Part Number: ZKR20X5/2D/F1A; Component Kind: Standard; Component Type: Standard; Designator: ZKR20X5/2D/F1A; Footprint: zkr 20x5 (2-delig); Library Reference: ZKR20X5/2D/F1A; Pin Count: 2
footprint zkr 20x5 (2-delig)
pins: 1, 2

## ZKR20X5/2D/F2.5A
designator F?
zekering 20x5mm, 2-delige houder, F2.5A; Part Number: ZKR20X5/2D/F2.5A; Component Kind: Standard; Component Type: Standard; Designator: ZKR20X5/2D/F2.5A; Footprint: zkr 20x5 (2-delig); Library Reference: ZKR20X5/2D/F2.5A; Pin Count: 2
footprint zkr 20x5 (2-delig)
pins: 1, 2

## ZKR20X5/2D/F2A
designator F?
zekering 20x5mm, 2-delige houder, F2A; Part Number: ZKR20X5/2D/F2A; Component Kind: Standard; Component Type: Standard; Designator: ZKR20X5/2D/F2A; Footprint: zkr 20x5 (2-delig); Library Reference: ZKR20X5/2D/F2A; Pin Count: 2
footprint zkr 20x5 (2-delig)
pins: 1, 2

## ZKR20X5/2D/F3.15A
designator F?
zekering 20x5mm, 2-delige houder, F3.15A; Part Number: ZKR20X5/2D/F3.15A; Component Kind: Standard; Component Type: Standard; Designator: ZKR20X5/2D/F3.15A; Footprint: zkr 20x5 (2-delig); Library Reference: ZKR20X5/2D/F3.15A; Pin Count: 2
footprint zkr 20x5 (2-delig)
pins: 1, 2

## ZKR20X5/2D/F4A
designator F?
zekering 20x5mm, 2-delige houder, F4A; Part Number: ZKR20X5/2D/F4A; Component Kind: Standard; Component Type: Standard; Designator: ZKR20X5/2D/F4A; Footprint: zkr 20x5 (2-delig); Library Reference: ZKR20X5/2D/F4A; Pin Count: 2
footprint zkr 20x5 (2-delig)
pins: 1, 2

## ZKR20X5/2D/F5A
designator F?
zekering 20x5mm, 2-delige houder, F5A; Part Number: ZKR20X5/2D/F5A; Component Kind: Standard; Component Type: Standard; Designator: ZKR20X5/2D/F5A; Footprint: zkr 20x5 (2-delig); Library Reference: ZKR20X5/2D/F5A; Pin Count: 2
footprint zkr 20x5 (2-delig)
pins: 1, 2

## ZKR20X5/2D/F6.3A
designator F?
zekering 20x5mm, 2-delige houder, F6.3A; Part Number: ZKR20X5/2D/F6.3A; Component Kind: Standard; Component Type: Standard; Designator: ZKR20X5/2D/F6.3A; Footprint: zkr 20x5 (2-delig); Library Reference: ZKR20X5/2D/F6.3A; Pin Count: 2
footprint zkr 20x5 (2-delig)
pins: 1, 2

## ZKR20X5/2D/F10A
designator F?
zekering 20x5mm, 2-delige houder, F10A; Part Number: ZKR20X5/2D/F10A; Component Kind: Standard; Component Type: Standard; Designator: ZKR20X5/2D/F10A; Footprint: zkr 20x5 (2-delig); Library Reference: ZKR20X5/2D/F10A; Pin Count: 2
footprint zkr 20x5 (2-delig)
pins: 1, 2

## ZKR20X5/2D/F32MA
designator F?
zekering 20x5mm, 2-delige houder, F32mA; Part Number: ZKR20X5/2D/F32MA; Component Kind: Standard; Component Type: Standard; Designator: ZKR20X5/2D/F32MA; Footprint: zkr 20x5 (2-delig); Library Reference: ZKR20X5/2D/F32MA; Pin Count: 2
footprint zkr 20x5 (2-delig)
pins: 1, 2

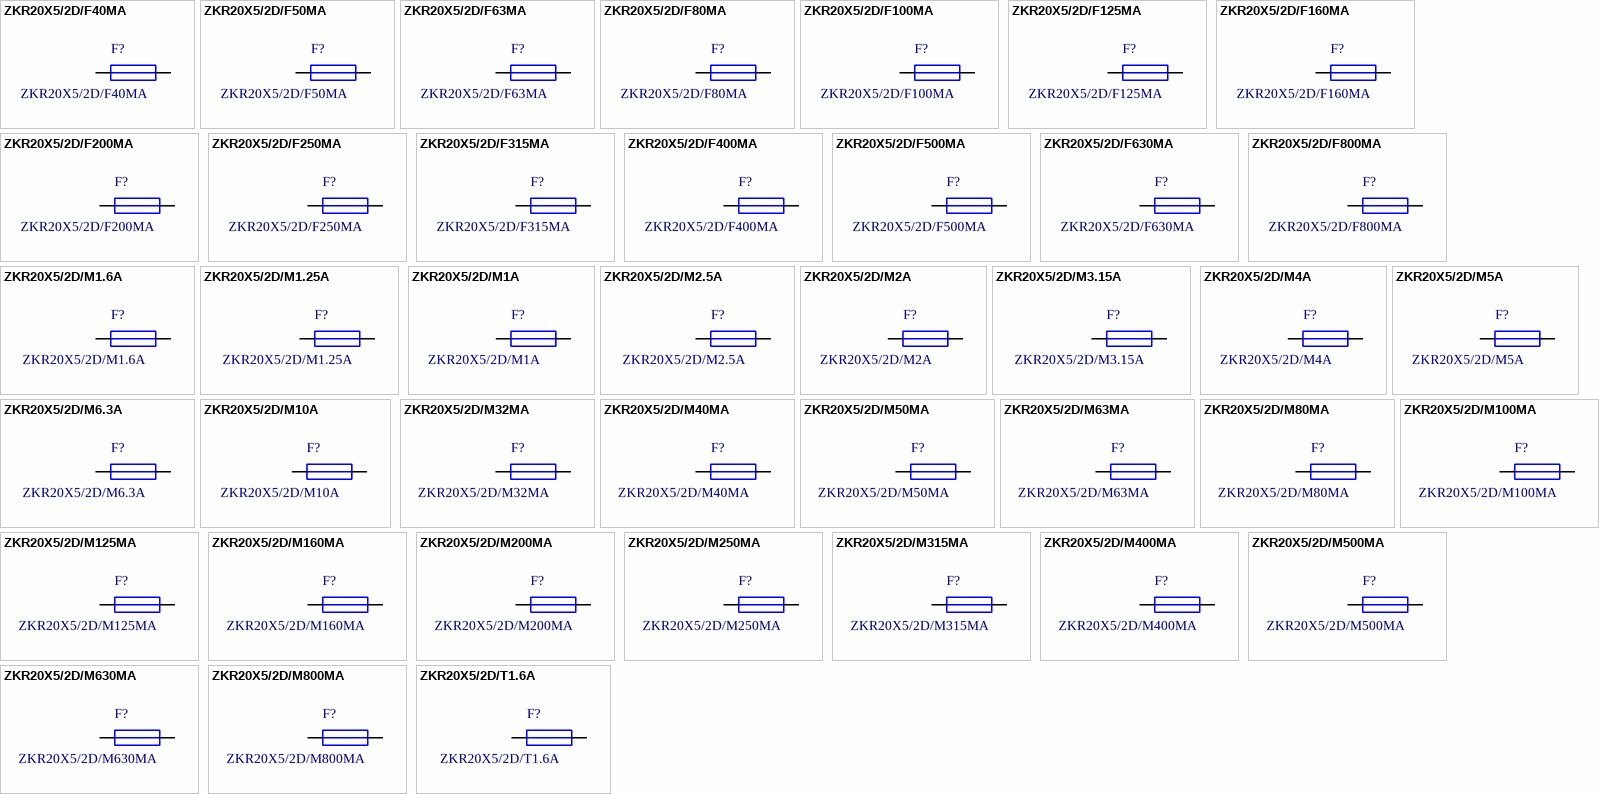
[diagram p124: symbols ZKR20X5/2D/F40MA to ZKR20X5/2D/T1.6A]

## ZKR20X5/2D/F40MA
designator F?
zekering 20x5mm, 2-delige houder, F40mA; Part Number: ZKR20X5/2D/F40MA; Component Kind: Standard; Component Type: Standard; Designator: ZKR20X5/2D/F40MA; Footprint: zkr 20x5 (2-delig); Library Reference: ZKR20X5/2D/F40MA; Pin Count: 2
footprint zkr 20x5 (2-delig)
pins: 1, 2

## ZKR20X5/2D/F50MA
designator F?
zekering 20x5mm, 2-delige houder, F50mA; Part Number: ZKR20X5/2D/F50MA; Component Kind: Standard; Component Type: Standard; Designator: ZKR20X5/2D/F50MA; Footprint: zkr 20x5 (2-delig); Library Reference: ZKR20X5/2D/F50MA; Pin Count: 2
footprint zkr 20x5 (2-delig)
pins: 1, 2

## ZKR20X5/2D/F63MA
designator F?
zekering 20x5mm, 2-delige houder, F63mA; Part Number: ZKR20X5/2D/F63MA; Component Kind: Standard; Component Type: Standard; Designator: ZKR20X5/2D/F63MA; Footprint: zkr 20x5 (2-delig); Library Reference: ZKR20X5/2D/F63MA; Pin Count: 2
footprint zkr 20x5 (2-delig)
pins: 1, 2

## ZKR20X5/2D/F80MA
designator F?
zekering 20x5mm, 2-delige houder, F80mA; Part Number: ZKR20X5/2D/F80MA; Component Kind: Standard; Component Type: Standard; Designator: ZKR20X5/2D/F80MA; Footprint: zkr 20x5 (2-delig); Library Reference: ZKR20X5/2D/F80MA; Pin Count: 2
footprint zkr 20x5 (2-delig)
pins: 1, 2

## ZKR20X5/2D/F100MA
designator F?
zekering 20x5mm, 2-delige houder, F100mA; Part Number: ZKR20X5/2D/F100MA; Component Kind: Standard; Component Type: Standard; Designator: ZKR20X5/2D/F100MA; Footprint: zkr 20x5 (2-delig); Library Reference: ZKR20X5/2D/F100MA; Pin Count: 2
footprint zkr 20x5 (2-delig)
pins: 1, 2

## ZKR20X5/2D/F125MA
designator F?
zekering 20x5mm, 2-delige houder, F125mA; Part Number: ZKR20X5/2D/F125MA; Component Kind: Standard; Component Type: Standard; Designator: ZKR20X5/2D/F125MA; Footprint: zkr 20x5 (2-delig); Library Reference: ZKR20X5/2D/F125MA; Pin Count: 2
footprint zkr 20x5 (2-delig)
pins: 1, 2

## ZKR20X5/2D/F160MA
designator F?
zekering 20x5mm, 2-delige houder, F160mA; Part Number: ZKR20X5/2D/F160MA; Component Kind: Standard; Component Type: Standard; Designator: ZKR20X5/2D/F160MA; Footprint: zkr 20x5 (2-delig); Library Reference: ZKR20X5/2D/F160MA; Pin Count: 2
footprint zkr 20x5 (2-delig)
pins: 1, 2

## ZKR20X5/2D/F200MA
designator F?
zekering 20x5mm, 2-delige houder, F200mA; Part Number: ZKR20X5/2D/F200MA; Component Kind: Standard; Component Type: Standard; Designator: ZKR20X5/2D/F200MA; Footprint: zkr 20x5 (2-delig); Library Reference: ZKR20X5/2D/F200MA; Pin Count: 2
footprint zkr 20x5 (2-delig)
pins: 1, 2

## ZKR20X5/2D/F250MA
designator F?
zekering 20x5mm, 2-delige houder, F250mA; Part Number: ZKR20X5/2D/F250MA; Component Kind: Standard; Component Type: Standard; Designator: ZKR20X5/2D/F250MA; Footprint: zkr 20x5 (2-delig); Library Reference: ZKR20X5/2D/F250MA; Pin Count: 2
footprint zkr 20x5 (2-delig)
pins: 1, 2

## ZKR20X5/2D/F315MA
designator F?
zekering 20x5mm, 2-delige houder, F315mA; Part Number: ZKR20X5/2D/F315MA; Component Kind: Standard; Component Type: Standard; Designator: ZKR20X5/2D/F315MA; Footprint: zkr 20x5 (2-delig); Library Reference: ZKR20X5/2D/F315MA; Pin Count: 2
footprint zkr 20x5 (2-delig)
pins: 1, 2

## ZKR20X5/2D/F400MA
designator F?
zekering 20x5mm, 2-delige houder, F400mA; Part Number: ZKR20X5/2D/F400MA; Component Kind: Standard; Component Type: Standard; Designator: ZKR20X5/2D/F400MA; Footprint: zkr 20x5 (2-delig); Library Reference: ZKR20X5/2D/F400MA; Pin Count: 2
footprint zkr 20x5 (2-delig)
pins: 1, 2

## ZKR20X5/2D/F500MA
designator F?
zekering 20x5mm, 2-delige houder, F500mA; Part Number: ZKR20X5/2D/F500MA; Component Kind: Standard; Component Type: Standard; Designator: ZKR20X5/2D/F500MA; Footprint: zkr 20x5 (2-delig); Library Reference: ZKR20X5/2D/F500MA; Pin Count: 2
footprint zkr 20x5 (2-delig)
pins: 1, 2

## ZKR20X5/2D/F630MA
designator F?
zekering 20x5mm, 2-delige houder, F630mA; Part Number: ZKR20X5/2D/F630MA; Component Kind: Standard; Component Type: Standard; Designator: ZKR20X5/2D/F630MA; Footprint: zkr 20x5 (2-delig); Library Reference: ZKR20X5/2D/F630MA; Pin Count: 2
footprint zkr 20x5 (2-delig)
pins: 1, 2

## ZKR20X5/2D/F800MA
designator F?
zekering 20x5mm, 2-delige houder, F800mA; Part Number: ZKR20X5/2D/F800MA; Component Kind: Standard; Component Type: Standard; Designator: ZKR20X5/2D/F800MA; Footprint: zkr 20x5 (2-delig); Library Reference: ZKR20X5/2D/F800MA; Pin Count: 2
footprint zkr 20x5 (2-delig)
pins: 1, 2

## ZKR20X5/2D/M1.6A
designator F?
zekering 20x5mm, 2-delige houder, M1.6A; Part Number: ZKR20X5/2D/M1.6A; Component Kind: Standard; Component Type: Standard; Designator: ZKR20X5/2D/M1.6A; Footprint: zkr 20x5 (2-delig); Library Reference: ZKR20X5/2D/M1.6A; Pin Count: 2
footprint zkr 20x5 (2-delig)
pins: 1, 2

## ZKR20X5/2D/M1.25A
designator F?
zekering 20x5mm, 2-delige houder, M1.25A; Part Number: ZKR20X5/2D/M1.25A; Component Kind: Standard; Component Type: Standard; Designator: ZKR20X5/2D/M1.25A; Footprint: zkr 20x5 (2-delig); Library Reference: ZKR20X5/2D/M1.25A; Pin Count: 2
footprint zkr 20x5 (2-delig)
pins: 1, 2

## ZKR20X5/2D/M1A
designator F?
zekering 20x5mm, 2-delige houder, M1A; Part Number: ZKR20X5/2D/M1A; Component Kind: Standard; Component Type: Standard; Designator: ZKR20X5/2D/M1A; Footprint: zkr 20x5 (2-delig); Library Reference: ZKR20X5/2D/M1A; Pin Count: 2
footprint zkr 20x5 (2-delig)
pins: 1, 2

## ZKR20X5/2D/M2.5A
designator F?
zekering 20x5mm, 2-delige houder, M2.5A; Part Number: ZKR20X5/2D/M2.5A; Component Kind: Standard; Component Type: Standard; Designator: ZKR20X5/2D/M2.5A; Footprint: zkr 20x5 (2-delig); Library Reference: ZKR20X5/2D/M2.5A; Pin Count: 2
footprint zkr 20x5 (2-delig)
pins: 1, 2

## ZKR20X5/2D/M2A
designator F?
zekering 20x5mm, 2-delige houder, M2A; Part Number: ZKR20X5/2D/M2A; Component Kind: Standard; Component Type: Standard; Designator: ZKR20X5/2D/M2A; Footprint: zkr 20x5 (2-delig); Library Reference: ZKR20X5/2D/M2A; Pin Count: 2
footprint zkr 20x5 (2-delig)
pins: 1, 2

## ZKR20X5/2D/M3.15A
designator F?
zekering 20x5mm, 2-delige houder, M3.15A; Part Number: ZKR20X5/2D/M3.15A; Component Kind: Standard; Component Type: Standard; Designator: ZKR20X5/2D/M3.15A; Footprint: zkr 20x5 (2-delig); Library Reference: ZKR20X5/2D/M3.15A; Pin Count: 2
footprint zkr 20x5 (2-delig)
pins: 1, 2

## ZKR20X5/2D/M4A
designator F?
zekering 20x5mm, 2-delige houder, M4A; Part Number: ZKR20X5/2D/M4A; Component Kind: Standard; Component Type: Standard; Designator: ZKR20X5/2D/M4A; Footprint: zkr 20x5 (2-delig); Library Reference: ZKR20X5/2D/M4A; Pin Count: 2
footprint zkr 20x5 (2-delig)
pins: 1, 2

## ZKR20X5/2D/M5A
designator F?
zekering 20x5mm, 2-delige houder, M5A; Part Number: ZKR20X5/2D/M5A; Component Kind: Standard; Component Type: Standard; Designator: ZKR20X5/2D/M5A; Footprint: zkr 20x5 (2-delig); Library Reference: ZKR20X5/2D/M5A; Pin Count: 2
footprint zkr 20x5 (2-delig)
pins: 1, 2

## ZKR20X5/2D/M6.3A
designator F?
zekering 20x5mm, 2-delige houder, M6.3A; Part Number: ZKR20X5/2D/M6.3A; Component Kind: Standard; Component Type: Standard; Designator: ZKR20X5/2D/M6.3A; Footprint: zkr 20x5 (2-delig); Library Reference: ZKR20X5/2D/M6.3A; Pin Count: 2
footprint zkr 20x5 (2-delig)
pins: 1, 2

## ZKR20X5/2D/M10A
designator F?
zekering 20x5mm, 2-delige houder, M10A; Part Number: ZKR20X5/2D/M10A; Component Kind: Standard; Component Type: Standard; Designator: ZKR20X5/2D/M10A; Footprint: zkr 20x5 (2-delig); Library Reference: ZKR20X5/2D/M10A; Pin Count: 2
footprint zkr 20x5 (2-delig)
pins: 1, 2

## ZKR20X5/2D/M32MA
designator F?
zekering 20x5mm, 2-delige houder, M32mA; Part Number: ZKR20X5/2D/M32MA; Component Kind: Standard; Component Type: Standard; Designator: ZKR20X5/2D/M32MA; Footprint: zkr 20x5 (2-delig); Library Reference: ZKR20X5/2D/M32MA; Pin Count: 2
footprint zkr 20x5 (2-delig)
pins: 1, 2

## ZKR20X5/2D/M40MA
designator F?
zekering 20x5mm, 2-delige houder, M40mA; Part Number: ZKR20X5/2D/M40MA; Component Kind: Standard; Component Type: Standard; Designator: ZKR20X5/2D/M40MA; Footprint: zkr 20x5 (2-delig); Library Reference: ZKR20X5/2D/M40MA; Pin Count: 2
footprint zkr 20x5 (2-delig)
pins: 1, 2

## ZKR20X5/2D/M50MA
designator F?
zekering 20x5mm, 2-delige houder, M50mA; Part Number: ZKR20X5/2D/M50MA; Component Kind: Standard; Component Type: Standard; Designator: ZKR20X5/2D/M50MA; Footprint: zkr 20x5 (2-delig); Library Reference: ZKR20X5/2D/M50MA; Pin Count: 2
footprint zkr 20x5 (2-delig)
pins: 1, 2

## ZKR20X5/2D/M63MA
designator F?
zekering 20x5mm, 2-delige houder, M63mA; Part Number: ZKR20X5/2D/M63MA; Component Kind: Standard; Component Type: Standard; Designator: ZKR20X5/2D/M63MA; Footprint: zkr 20x5 (2-delig); Library Reference: ZKR20X5/2D/M63MA; Pin Count: 2
footprint zkr 20x5 (2-delig)
pins: 1, 2

## ZKR20X5/2D/M80MA
designator F?
zekering 20x5mm, 2-delige houder, M80mA; Part Number: ZKR20X5/2D/M80MA; Component Kind: Standard; Component Type: Standard; Designator: ZKR20X5/2D/M80MA; Footprint: zkr 20x5 (2-delig); Library Reference: ZKR20X5/2D/M80MA; Pin Count: 2
footprint zkr 20x5 (2-delig)
pins: 1, 2

## ZKR20X5/2D/M100MA
designator F?
zekering 20x5mm, 2-delige houder, M100mA; Part Number: ZKR20X5/2D/M100MA; Component Kind: Standard; Component Type: Standard; Designator: ZKR20X5/2D/M100MA; Footprint: zkr 20x5 (2-delig); Library Reference: ZKR20X5/2D/M100MA; Pin Count: 2
footprint zkr 20x5 (2-delig)
pins: 1, 2

## ZKR20X5/2D/M125MA
designator F?
zekering 20x5mm, 2-delige houder, M125mA; Part Number: ZKR20X5/2D/M125MA; Component Kind: Standard; Component Type: Standard; Designator: ZKR20X5/2D/M125MA; Footprint: zkr 20x5 (2-delig); Library Reference: ZKR20X5/2D/M125MA; Pin Count: 2
footprint zkr 20x5 (2-delig)
pins: 1, 2

## ZKR20X5/2D/M160MA
designator F?
zekering 20x5mm, 2-delige houder, M160mA; Part Number: ZKR20X5/2D/M160MA; Component Kind: Standard; Component Type: Standard; Designator: ZKR20X5/2D/M160MA; Footprint: zkr 20x5 (2-delig); Library Reference: ZKR20X5/2D/M160MA; Pin Count: 2
footprint zkr 20x5 (2-delig)
pins: 1, 2

## ZKR20X5/2D/M200MA
designator F?
zekering 20x5mm, 2-delige houder, M200mA; Part Number: ZKR20X5/2D/M200MA; Component Kind: Standard; Component Type: Standard; Designator: ZKR20X5/2D/M200MA; Footprint: zkr 20x5 (2-delig); Library Reference: ZKR20X5/2D/M200MA; Pin Count: 2
footprint zkr 20x5 (2-delig)
pins: 1, 2

## ZKR20X5/2D/M250MA
designator F?
zekering 20x5mm, 2-delige houder, M250mA; Part Number: ZKR20X5/2D/M250MA; Component Kind: Standard; Component Type: Standard; Designator: ZKR20X5/2D/M250MA; Footprint: zkr 20x5 (2-delig); Library Reference: ZKR20X5/2D/M250MA; Pin Count: 2
footprint zkr 20x5 (2-delig)
pins: 1, 2

## ZKR20X5/2D/M315MA
designator F?
zekering 20x5mm, 2-delige houder, M315mA; Part Number: ZKR20X5/2D/M315MA; Component Kind: Standard; Component Type: Standard; Designator: ZKR20X5/2D/M315MA; Footprint: zkr 20x5 (2-delig); Library Reference: ZKR20X5/2D/M315MA; Pin Count: 2
footprint zkr 20x5 (2-delig)
pins: 1, 2

## ZKR20X5/2D/M400MA
designator F?
zekering 20x5mm, 2-delige houder, M400mA; Part Number: ZKR20X5/2D/M400MA; Component Kind: Standard; Component Type: Standard; Designator: ZKR20X5/2D/M400MA; Footprint: zkr 20x5 (2-delig); Library Reference: ZKR20X5/2D/M400MA; Pin Count: 2
footprint zkr 20x5 (2-delig)
pins: 1, 2

## ZKR20X5/2D/M500MA
designator F?
zekering 20x5mm, 2-delige houder, M500mA; Part Number: ZKR20X5/2D/M500MA; Component Kind: Standard; Component Type: Standard; Designator: ZKR20X5/2D/M500MA; Footprint: zkr 20x5 (2-delig); Library Reference: ZKR20X5/2D/M500MA; Pin Count: 2
footprint zkr 20x5 (2-delig)
pins: 1, 2

## ZKR20X5/2D/M630MA
designator F?
zekering 20x5mm, 2-delige houder, M630mA; Part Number: ZKR20X5/2D/M630MA; Component Kind: Standard; Component Type: Standard; Designator: ZKR20X5/2D/M630MA; Footprint: zkr 20x5 (2-delig); Library Reference: ZKR20X5/2D/M630MA; Pin Count: 2
footprint zkr 20x5 (2-delig)
pins: 1, 2

## ZKR20X5/2D/M800MA
designator F?
zekering 20x5mm, 2-delige houder, M800mA; Part Number: ZKR20X5/2D/M800MA; Component Kind: Standard; Component Type: Standard; Designator: ZKR20X5/2D/M800MA; Footprint: zkr 20x5 (2-delig); Library Reference: ZKR20X5/2D/M800MA; Pin Count: 2
footprint zkr 20x5 (2-delig)
pins: 1, 2

## ZKR20X5/2D/T1.6A
designator F?
zekering 20x5mm, 2-delige houder, T1.6A; Part Number: ZKR20X5/2D/T1.6A; Component Kind: Standard; Component Type: Standard; Designator: ZKR20X5/2D/T1.6A; Footprint: zkr 20x5 (2-delig); Library Reference: ZKR20X5/2D/T1.6A; Pin Count: 2
footprint zkr 20x5 (2-delig)
pins: 1, 2

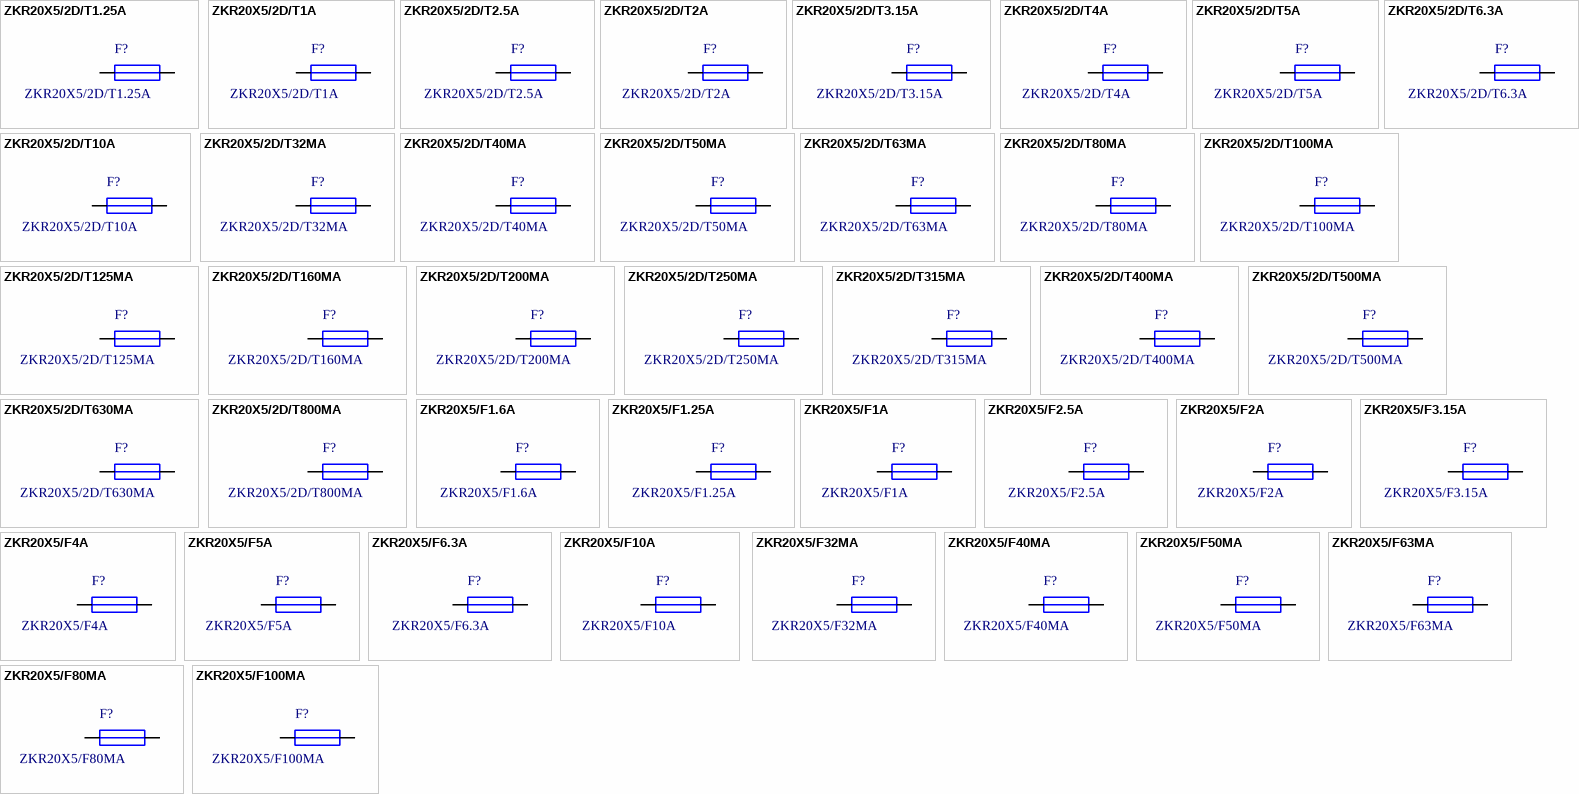
[diagram p125: symbols ZKR20X5/2D/T1.25A to ZKR20X5/F100MA]

## ZKR20X5/2D/T1.25A
designator F?
zekering 20x5mm, 2-delige houder, T1.25A; Part Number: ZKR20X5/2D/T1.25A; Component Kind: Standard; Component Type: Standard; Designator: ZKR20X5/2D/T1.25A; Footprint: zkr 20x5 (2-delig); Library Reference: ZKR20X5/2D/T1.25A; Pin Count: 2
footprint zkr 20x5 (2-delig)
pins: 1, 2

## ZKR20X5/2D/T1A
designator F?
zekering 20x5mm, 2-delige houder, T1A; Part Number: ZKR20X5/2D/T1A; Component Kind: Standard; Component Type: Standard; Designator: ZKR20X5/2D/T1A; Footprint: zkr 20x5 (2-delig); Library Reference: ZKR20X5/2D/T1A; Pin Count: 2
footprint zkr 20x5 (2-delig)
pins: 1, 2

## ZKR20X5/2D/T2.5A
designator F?
zekering 20x5mm, 2-delige houder, T2.5A; Part Number: ZKR20X5/2D/T2.5A; Component Kind: Standard; Component Type: Standard; Designator: ZKR20X5/2D/T2.5A; Footprint: zkr 20x5 (2-delig); Library Reference: ZKR20X5/2D/T2.5A; Pin Count: 2
footprint zkr 20x5 (2-delig)
pins: 1, 2

## ZKR20X5/2D/T2A
designator F?
zekering 20x5mm, 2-delige houder, T2A; Part Number: ZKR20X5/2D/T2A; Component Kind: Standard; Component Type: Standard; Designator: ZKR20X5/2D/T2A; Footprint: zkr 20x5 (2-delig); Library Reference: ZKR20X5/2D/T2A; Pin Count: 2
footprint zkr 20x5 (2-delig)
pins: 1, 2

## ZKR20X5/2D/T3.15A
designator F?
zekering 20x5mm, 2-delige houder, T3.15A; Part Number: ZKR20X5/2D/T3.15A; Component Kind: Standard; Component Type: Standard; Designator: ZKR20X5/2D/T3.15A; Footprint: zkr 20x5 (2-delig); Library Reference: ZKR20X5/2D/T3.15A; Pin Count: 2
footprint zkr 20x5 (2-delig)
pins: 1, 2

## ZKR20X5/2D/T4A
designator F?
zekering 20x5mm, 2-delige houder, T4A; Part Number: ZKR20X5/2D/T4A; Component Kind: Standard; Component Type: Standard; Designator: ZKR20X5/2D/T4A; Footprint: zkr 20x5 (2-delig); Library Reference: ZKR20X5/2D/T4A; Pin Count: 2
footprint zkr 20x5 (2-delig)
pins: 1, 2

## ZKR20X5/2D/T5A
designator F?
zekering 20x5mm, 2-delige houder, T5A; Part Number: ZKR20X5/2D/T5A; Component Kind: Standard; Component Type: Standard; Designator: ZKR20X5/2D/T5A; Footprint: zkr 20x5 (2-delig); Library Reference: ZKR20X5/2D/T5A; Pin Count: 2
footprint zkr 20x5 (2-delig)
pins: 1, 2

## ZKR20X5/2D/T6.3A
designator F?
zekering 20x5mm, 2-delige houder, T6.3A; Part Number: ZKR20X5/2D/T6.3A; Component Kind: Standard; Component Type: Standard; Designator: ZKR20X5/2D/T6.3A; Footprint: zkr 20x5 (2-delig); Library Reference: ZKR20X5/2D/T6.3A; Pin Count: 2
footprint zkr 20x5 (2-delig)
pins: 1, 2

## ZKR20X5/2D/T10A
designator F?
zekering 20x5mm, 2-delige houder, T10A; Part Number: ZKR20X5/2D/T10A; Component Kind: Standard; Component Type: Standard; Designator: ZKR20X5/2D/T10A; Footprint: zkr 20x5 (2-delig); Library Reference: ZKR20X5/2D/T10A; Pin Count: 2
footprint zkr 20x5 (2-delig)
pins: 1, 2

## ZKR20X5/2D/T32MA
designator F?
zekering 20x5mm, 2-delige houder, T32mA
footprint zkr 20x5 (2-delig)
pins: 1, 2

## ZKR20X5/2D/T40MA
designator F?
zekering 20x5mm, 2-delige houder, T40mA; Part Number: ZKR20X5/2D/T40MA; Component Kind: Standard; Component Type: Standard; Designator: ZKR20X5/2D/T40MA; Footprint: zkr 20x5 (2-delig); Library Reference: ZKR20X5/2D/T40MA; Pin Count: 2
footprint zkr 20x5 (2-delig)
pins: 1, 2

## ZKR20X5/2D/T50MA
designator F?
zekering 20x5mm, 2-delige houder, T50mA; Part Number: ZKR20X5/2D/T50MA; Component Kind: Standard; Component Type: Standard; Designator: ZKR20X5/2D/T50MA; Footprint: zkr 20x5 (2-delig); Library Reference: ZKR20X5/2D/T50MA; Pin Count: 2
footprint zkr 20x5 (2-delig)
pins: 1, 2

## ZKR20X5/2D/T63MA
designator F?
zekering 20x5mm, 2-delige houder, T63mA; Part Number: ZKR20X5/2D/T63MA; Component Kind: Standard; Component Type: Standard; Designator: ZKR20X5/2D/T63MA; Footprint: zkr 20x5 (2-delig); Library Reference: ZKR20X5/2D/T63MA; Pin Count: 2
footprint zkr 20x5 (2-delig)
pins: 1, 2

## ZKR20X5/2D/T80MA
designator F?
zekering 20x5mm, 2-delige houder, T80mA; Part Number: ZKR20X5/2D/T80MA; Component Kind: Standard; Component Type: Standard; Designator: ZKR20X5/2D/T80MA; Footprint: zkr 20x5 (2-delig); Library Reference: ZKR20X5/2D/T80MA; Pin Count: 2
footprint zkr 20x5 (2-delig)
pins: 1, 2

## ZKR20X5/2D/T100MA
designator F?
zekering 20x5mm, 2-delige houder, T100mA; Part Number: ZKR20X5/2D/T100MA; Component Kind: Standard; Component Type: Standard; Designator: ZKR20X5/2D/T100MA; Footprint: zkr 20x5 (2-delig); Library Reference: ZKR20X5/2D/T100MA; Pin Count: 2
footprint zkr 20x5 (2-delig)
pins: 1, 2

## ZKR20X5/2D/T125MA
designator F?
zekering 20x5mm, 2-delige houder, T125mA; Part Number: ZKR20X5/2D/T125MA; Component Kind: Standard; Component Type: Standard; Designator: ZKR20X5/2D/T125MA; Footprint: zkr 20x5 (2-delig); Library Reference: ZKR20X5/2D/T125MA; Pin Count: 2
footprint zkr 20x5 (2-delig)
pins: 1, 2

## ZKR20X5/2D/T160MA
designator F?
zekering 20x5mm, 2-delige houder, T160mA; Part Number: ZKR20X5/2D/T160MA; Component Kind: Standard; Component Type: Standard; Designator: ZKR20X5/2D/T160MA; Footprint: zkr 20x5 (2-delig); Library Reference: ZKR20X5/2D/T160MA; Pin Count: 2
footprint zkr 20x5 (2-delig)
pins: 1, 2

## ZKR20X5/2D/T200MA
designator F?
zekering 20x5mm, 2-delige houder, T200mA; Part Number: ZKR20X5/2D/T200MA; Component Kind: Standard; Component Type: Standard; Designator: ZKR20X5/2D/T200MA; Footprint: zkr 20x5 (2-delig); Library Reference: ZKR20X5/2D/T200MA; Pin Count: 2
footprint zkr 20x5 (2-delig)
pins: 1, 2

## ZKR20X5/2D/T250MA
designator F?
zekering 20x5mm, 2-delige houder, T250mA; Part Number: ZKR20X5/2D/T250MA; Component Kind: Standard; Component Type: Standard; Designator: ZKR20X5/2D/T250MA; Footprint: zkr 20x5 (2-delig); Library Reference: ZKR20X5/2D/T250MA; Pin Count: 2
footprint zkr 20x5 (2-delig)
pins: 1, 2

## ZKR20X5/2D/T315MA
designator F?
zekering 20x5mm, 2-delige houder, T315mA; Part Number: ZKR20X5/2D/T315MA; Component Kind: Standard; Component Type: Standard; Designator: ZKR20X5/2D/T315MA; Footprint: zkr 20x5 (2-delig); Library Reference: ZKR20X5/2D/T315MA; Pin Count: 2
footprint zkr 20x5 (2-delig)
pins: 1, 2

## ZKR20X5/2D/T400MA
designator F?
zekering 20x5mm, 2-delige houder, T400mA; Part Number: ZKR20X5/2D/T400MA; Component Kind: Standard; Component Type: Standard; Designator: ZKR20X5/2D/T400MA; Footprint: zkr 20x5 (2-delig); Library Reference: ZKR20X5/2D/T400MA; Pin Count: 2
footprint zkr 20x5 (2-delig)
pins: 1, 2

## ZKR20X5/2D/T500MA
designator F?
zekering 20x5mm, 2-delige houder, T500mA; Part Number: ZKR20X5/2D/T500MA; Component Kind: Standard; Component Type: Standard; Designator: ZKR20X5/2D/T500MA; Footprint: zkr 20x5 (2-delig); Library Reference: ZKR20X5/2D/T500MA; Pin Count: 2
footprint zkr 20x5 (2-delig)
pins: 1, 2

## ZKR20X5/2D/T630MA
designator F?
zekering 20x5mm, 2-delige houder, T630mA; Part Number: ZKR20X5/2D/T630MA; Component Kind: Standard; Component Type: Standard; Designator: ZKR20X5/2D/T630MA; Footprint: zkr 20x5 (2-delig); Library Reference: ZKR20X5/2D/T630MA; Pin Count: 2
footprint zkr 20x5 (2-delig)
pins: 1, 2